# Altium schematic symbol library display.SchLib: 2 symbols
Pins are listed as number, name and electrical type; pins without a type are passive.

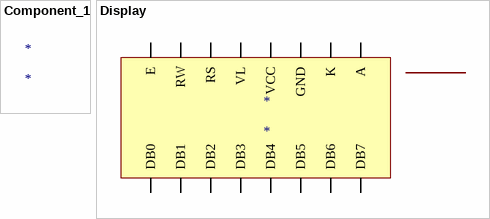
[diagram p0: symbols Component_1 to Display]

## Component_1
designator *

## Display
designator *
pins: 1 GND, 2 VCC, 3 VL, 4 RS, 5 RW, 6 E, 7 DB7, 8 DB6, 9 DB5, 10 DB4, 11 DB3, 12 DB2, 13 DB1, 14 DB0, 15 A, 16 K